# Altium footprint library SO-8_4.4mm.PcbLib: 1 footprints
Each footprint in its own frame and in the unit in brackets; x right, y up, seen from the top. Pads: shape width x height; smd on the part's side, far side on the other; paste and mask are expansions set on the pad; w line width, h text height; cw(c..) or ccw(c..) is an arc to the next point about the centre after c.
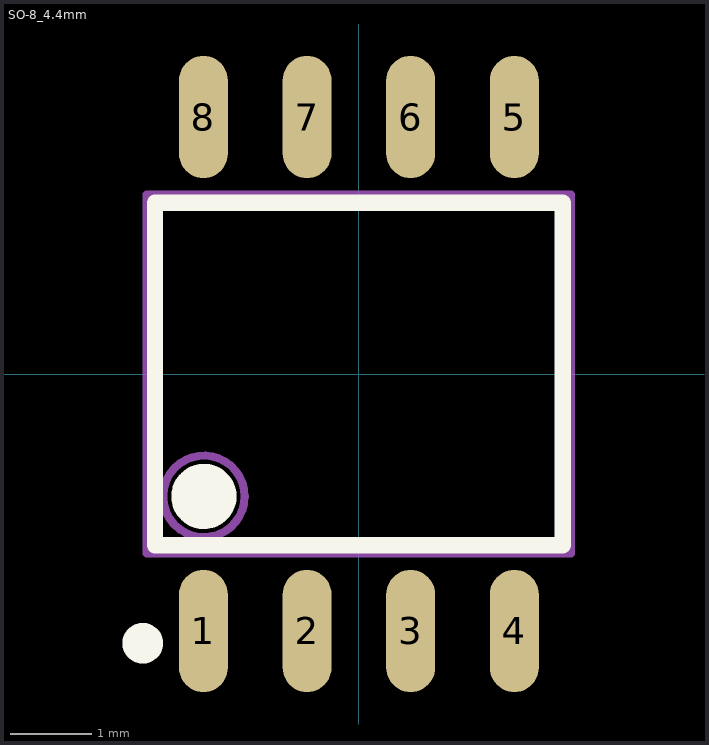
[diagram p0: the footprint, top view; thin cyan lines are the x and y axes]

## SO-8_4.4mm [mm]
pads (8):
  oval 0.6x1.5 smd: 1(-1.905,-3.15) 2(-0.635,-3.15) 3(0.635,-3.15) 4(1.905,-3.15) 5(1.905,3.15) 6(0.635,3.15) 7(-0.635,3.15) 8(-1.905,3.15)
Top Overlay:
  circle w0.4: c-1.9,-1.5 r0.2
  circle w0.25: c-2.65,-3.3 r0.125
  lines w0.2: -2.5,-2.1 2.5,-2.1 2.5,2.1 -2.5,2.1 -2.5,-2.1
Mechanical 13:
  circle w0.1: c-1.9,-1.5 r0.5
  lines w0.1: -2.6,-2.2 2.6,-2.2 2.6,2.2 -2.6,2.2 -2.6,-2.2